# EAGLE library part MOSFET-NCHANNEL_DUAL (library daqcs)
Mosfet Array 2 N-Channel (Dual) 60V 300mA 285mW Surface Mount US6
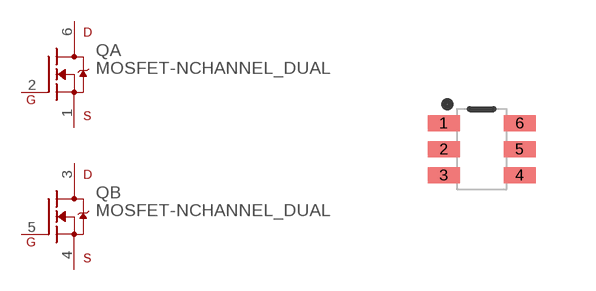
[diagram p21: symbol with the pads of SOT363P080X040-6N; footprint SOT363P080X040-6N]

Designator prefix Q; gates A=N-MOSFET-1G1D1S B=N-MOSFET-1G1D1S

## MOSFET-NCHANNEL_DUAL_DUAL_SOT363 (CONTINUOUS_DRAIN_CURRENT: 0.3A; DATASHEET: HW/docs/projects/raspi_zero_power_sensor_hat/datasheets/wdt_reset/SSM6N7002KFU_datasheet_en_20170112.pdf; FET_TYPE: 2 N-Channel (Dual); MANUFACTURER: Toshiba; MANUFACTURER_PN: SSM6N7002KFU,LF; POWER_MAX: 285mW; RDS_ON_MAX: 1.5 Ohm @ 100mA, 10V; VALUE: SSM6N7002KFU; VDS: 60V; VENDOR: Digi-key; VENDOR_PN: SSM6N7002KFULFCT-ND; VGS_MAX: 2.1V @ 250µA)  [SOT363P080X040-6N]
1  A:S  pas
2  A:G  pas
3  B:D  pas
4  B:S  pas
5  B:G  pas
6  A:D  pas

## Footprint SOT363P080X040-6N (pad centres in mm)
smd 0.8 x 0.4: 1 -0.95,0.65; 2 -0.95,0; 3 -0.95,-0.65; 4 0.95,-0.65; 5 0.95,0; 6 0.95,0.65